# EAGLE library part N76E003 (library added_parts)
Nuvoton N76E003 1T 8051-based microcontroller
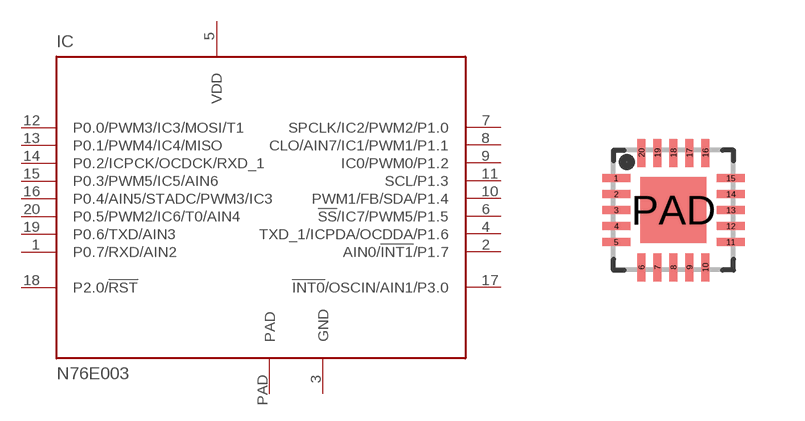
[diagram p14: symbol with the pads of QFN20_3X3; footprint QFN20_3X3]

Designator prefix IC

## N76E003AQ20  [QFN20_3X3]
1  P0.7/RXD/AIN2
2  AIN0/!INT1!/P1.7
3  GND  pwr
4  TXD_1/ICPDA/OCDDA/P1.6
5  VDD  pwr
6  !SS!/IC7/PWM5/P1.5
7  SPCLK/IC2/PWM2/P1.0
8  CLO/AIN7/IC1/PWM1/P1.1
9  IC0/PWM0/P1.2
10  PWM1/FB/SDA/P1.4
11  SCL/P1.3
12  P0.0/PWM3/IC3/MOSI/T1
13  P0.1/PWM4/IC4/MISO
14  P0.2/ICPCK/OCDCK/RXD_1
15  P0.3/PWM5/IC5/AIN6
16  P0.4/AIN5/STADC/PWM3/IC3
17  !INT0!/OSCIN/AIN1/P3.0
18  P2.0/!RST  in
19  P0.6/TXD/AIN3
20  P0.5/PWM2/IC6/T0/AIN4
PAD  PAD  pas

## Footprint QFN20_3X3 (pad centres in mm)
smd 0.7 x 0.2: 1 -1.435,0.8; 2 -1.435,0.4; 3 -1.435,0; 4 -1.435,-0.4; 5 -1.435,-0.8; 11 1.435,-0.8; 12 1.435,-0.4; 13 1.435,0; 14 1.435,0.4; 15 1.435,0.8
smd 0.2 x 0.7: 6 -0.8,-1.435; 7 -0.4,-1.435; 8 0,-1.435; 9 0.4,-1.435; 10 0.8,-1.435; 16 0.8,1.435; 17 0.4,1.435; 18 0,1.435; 19 -0.4,1.435; 20 -0.8,1.435
smd 1.65 x 1.65: PAD 0,0